# Altium integrated library Interface_USB.IntLib: 2 symbols
Pins are listed as number, name and electrical type; pins without a type are passive.

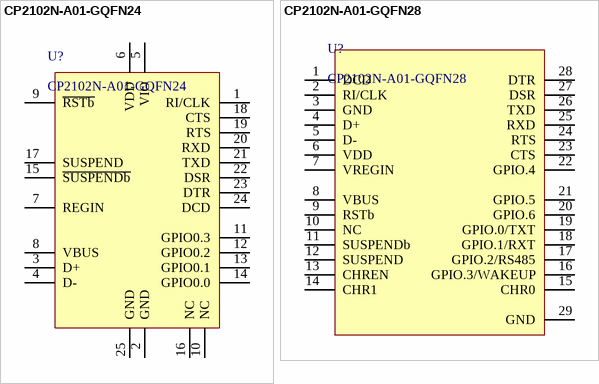
[diagram p0: symbols CP2102N-A01-GQFN24 to CP2102N-A01-GQFN28]

## CP2102N-A01-GQFN24
designator U?
USB to UART master bridge, QFN-24
footprint QFN-24-1EP_4x4_P0.5mm_EP2.45x2.45mm (QFN, 24-Leads, Body 4.00x4.00mm, Pitch 0.50mm, Thermal Pad 2.45x2.45mm, IPC Low Density)
pins: 1 RI/CLK, 2 GND, 3 D+, 4 D-, 5 VIO, 6 VDD, 7 REGIN, 8 VBUS, 9 ~{RSTb}, 10 NC, 11 GPIO0.3, 12 GPIO0.2, 13 GPIO0.1, 14 GPIO0.0, 15 ~{SUSPENDb}, 16 NC, 17 SUSPEND, 18 CTS, 19 RTS, 20 RXD, 21 TXD, 22 DSR, 23 DTR, 24 DCD, 25 GND

## CP2102N-A01-GQFN28
designator U?
USB to UART master bridge, QFN-28
footprint QFN-28-1EP_5x5mm_P0.5mm_EP3.35x3.35mm (QFN, 28-Leads, Body 5.00x5.00mm, Pitch 0.50mm, Thermal Pad 3.25x3.25mm, IPC Low Density)
pins: 1 DCD, 2 RI/CLK, 3 GND, 4 D+, 5 D-, 6 VDD, 7 VREGIN, 8 VBUS, 9 RSTb, 10 NC, 11 SUSPENDb, 12 SUSPEND, 13 CHREN, 14 CHR1, 15 CHR0, 16 GPIO.3/WAKEUP, 17 GPIO.2/RS485, 18 GPIO.1/RXT, 19 GPIO.0/TXT, 20 GPIO.6, 21 GPIO.5, 22 GPIO.4, 23 CTS, 24 RTS, 25 RXD, 26 TXD, 27 DSR, 28 DTR, 29 GND